# Altium footprint library L50T-SSU.PcbLib: 52 footprints (part 4 of 4)
Each footprint in its own frame and in the unit in brackets; x right, y up, seen from the top. Pads: shape width x height; smd on the part's side, far side on the other; paste and mask are expansions set on the pad; w line width, h text height; cw(c..) or ccw(c..) is an arc to the next point about the centre after c.
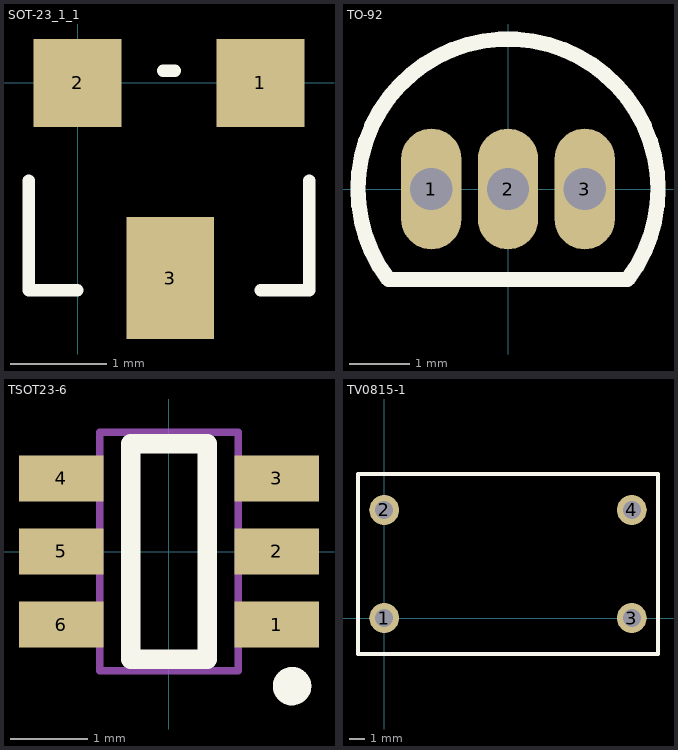
[diagram p3: the footprints below, top view; thin cyan lines are the x and y axes]

## SOT-23_1_1 [mil]
height 7.87
pads (3):
  rect 36x36 smd: 1(75,0) 2(0,0)
  rect 36x50 smd: 3(38,-80)
Top Overlay:
  lines w5: -20,-40 -20,-85 0,-85 ; 35,5 40,5 ; 75,-85 95,-85 95,-40

## TO-92 [mm]
height 5
pads (3):
  oval 1x2 hole 0.7 mask+0.051: 1(-1.27,0) 2(0,0) 3(1.27,0)
Top Overlay:
  lines w0.254: -1.98,-1.5 cw(c0,0) 1.98,-1.5 -1.98,-1.5
Mechanical 13:
  lines w0.1: -1.98,-1.5 cw(c0,0) 1.98,-1.5 -1.98,-1.5
3D body "TO-92.STEP": height 8, standoff -5, extent -2.588,-1.613 2.638,2.591

## TSOT23-6 [mm]
pads (6):
  rect 1.1x0.6 smd: 1(1.4,-0.95) 2(1.4,0) 3(1.4,0.95) 4(-1.4,0.95) 5(-1.4,0) 6(-1.4,-0.95)
Top Overlay:
  circle w0.25: c1.6,-1.75 r0.125
  lines w0.254: -0.5,-1.4 -0.5,1.4 0.5,1.4 0.5,-1.4 -0.5,-1.4
Mechanical 13:
  lines w0.1: -0.9,-1.55 -0.9,1.55 0.9,1.55 0.9,-1.55 -0.9,-1.55

## TV0815-1 [mm]
pads (4):
  round 2 hole 1.2: 1(0,0) 2(0,7.2) 3(16.5,0) 4(16.5,7.2)
Top Overlay:
  lines w0.254: -1.75,-2.4 -1.75,9.6 18.25,9.6 18.25,-2.4 -1.75,-2.4